# Altium schematic symbol library FMMT593.Schlib: 1 symbol
Pins are listed as number, name and electrical type; pins without a type are passive.

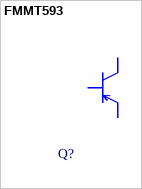
[diagram p0: symbol FMMT593]

## FMMT593
designator Q?
100V 1A PNP
pins: 1 B, 2 E, 3 C